# EAGLE library part RJ45-RJLSE (library Pygmy)
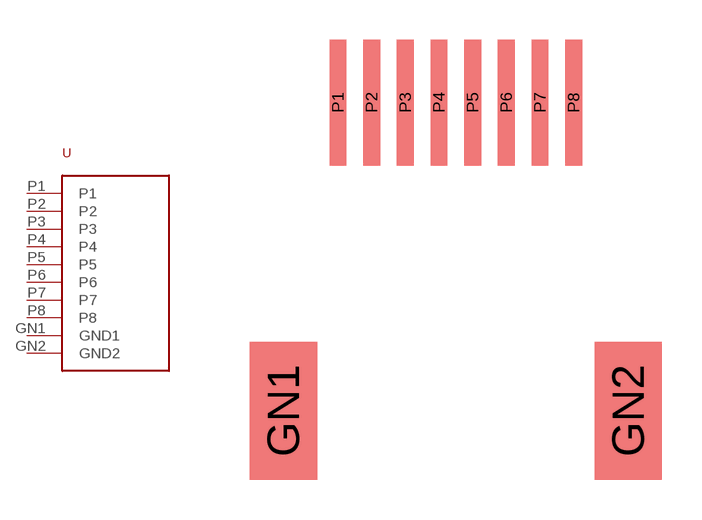
[diagram p80: symbol with the pads of RJ45-RJLSE; footprint RJ45-RJLSE]

Designator prefix -

## RJ45-RJLSE  [RJ45-RJLSE]
GN1  GND1
GN2  GND2
P1  P1
P2  P2
P3  P3
P4  P4
P5  P5
P6  P6
P7  P7
P8  P8

## Footprint RJ45-RJLSE (pad centres in mm)
smd 2.54 x 5.207: GN1 -6.502,-11.633; GN2 6.502,-11.633
smd 0.635 x 4.75: P1 -4.445,0; P2 -3.175,0; P3 -1.905,0; P4 -0.635,0; P5 0.635,0; P6 1.905,0; P7 3.175,0; P8 4.445,0